# Altium schematic symbol library gameConsole.SchLib: 7 symbols
Pins are listed as number, name and electrical type; pins without a type are passive.

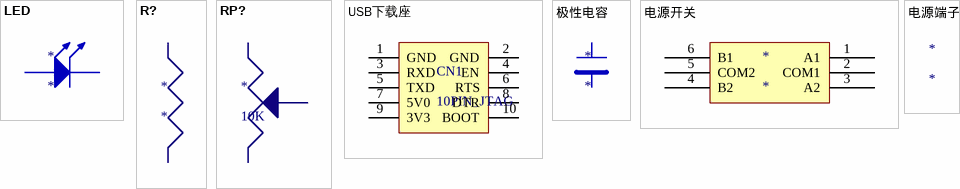
[diagram p0: symbols LED to 电源端子]

## LED
designator *

## R?
designator *
1 alternate drawing of the same symbol

## RP?
designator *, comment 10K

## USB下载座
designator CN1, comment 10PIN_JTAG
pins: 1 GND, 2 GND, 3 RXD, 4 EN, 5 TXD, 6 RTS, 7 5V0, 8 DTR, 9 3V3, 10 BOOT

## 极性电容
designator *

## 电源开关
designator *
pins: 1 A1, 2 COM1, 3 A2, 4 B2, 5 COM2, 6 B1

## 电源端子
designator *